# EAGLE library part BOB-08745 (library INTech)
Convertisseur de niveau logique BOB-08745
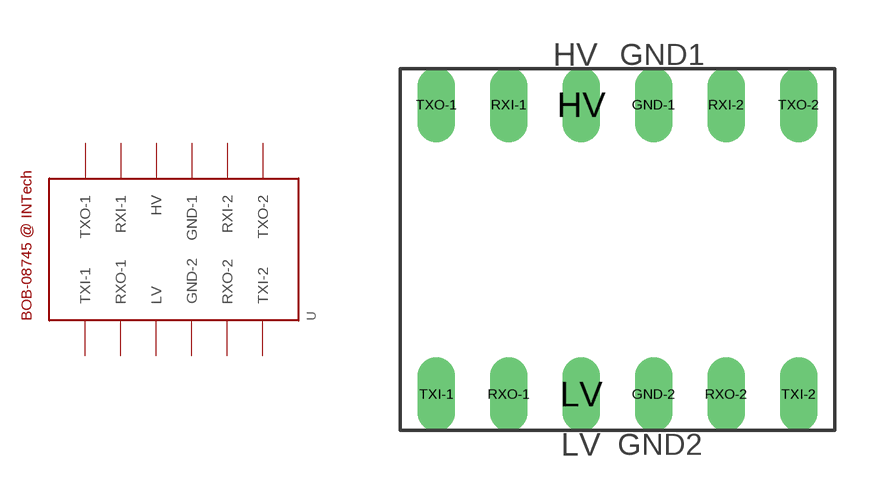
[diagram p0: symbol with the pads of BOB-08745; footprint BOB-08745]

Designator prefix -

## BOB-08745  [BOB-08745]
GND-1  GND-1
GND-2  GND-2
HV  HV
LV  LV
RXI-1  RXI-1
RXI-2  RXI-2
RXO-1  RXO-1
RXO-2  RXO-2
TXI-1  TXI-1
TXI-2  TXI-2
TXO-1  TXO-1
TXO-2  TXO-2

## Footprint BOB-08745 (pad centres in mm)
Convertisseur de niveau logique BOB-08745
drill 0.8 long: GND-1 1.27,5.08; GND-2 1.27,-5.08; HV -1.27,5.08; LV -1.27,-5.08; RXI-1 -3.81,5.08; RXI-2 3.81,5.08; RXO-1 -3.81,-5.08; RXO-2 3.81,-5.08; TXI-1 -6.35,-5.08; TXI-2 6.35,-5.08; TXO-1 -6.35,5.08; TXO-2 6.35,5.08